# Altium footprint library SPDT_Relay.PcbLib: 2 footprints
Each footprint in its own frame and in the unit in brackets; x right, y up, seen from the top. Pads: shape width x height; smd on the part's side, far side on the other; paste and mask are expansions set on the pad; w line width, h text height; cw(c..) or ccw(c..) is an arc to the next point about the centre after c.
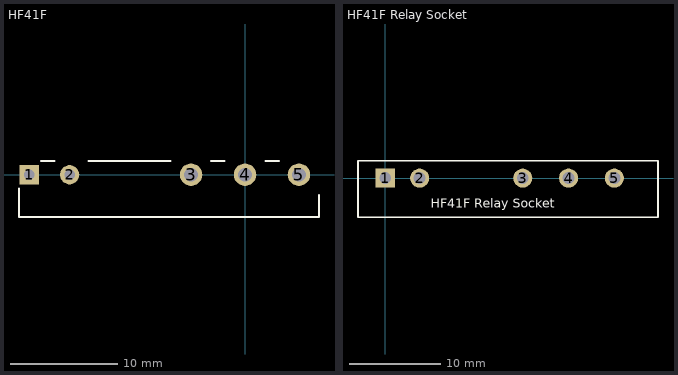
[diagram p0: the footprints below, top view; thin cyan lines are the x and y axes]

## HF41F [mm]
pads (5):
  rect 1.8x1.8 hole 1: 1(-20.16,0)
  round 1.8 hole 1: 2(-16.38,0)
  round 2.1 hole 1.3: 3(-5.04,0) 4(0,0) 5(5.04,0)
Top Overlay:
  lines w0.2: -21.107,-1.295 -21.107,-3.937 6.909,-3.937 6.909,-1.905 ; -19.05,1.27 -17.78,1.27 ; -14.605,1.27 -6.985,1.27 ; -3.175,1.27 -1.905,1.27 ; 1.905,1.27 3.175,1.27
3D body "Relay v2.step": height 15.47, standoff -3.03, extent -21.082,-3.922 6.918,1.178

## HF41F Relay Socket [mm]
pads (5):
  rect 2.1x2.1 hole 1.3: 1(0,0)
  round 2.1 hole 1.3: 2(3.78,0) 3(15.12,0) 4(20.16,0) 5(25.2,0)
Top Overlay:
  lines w0.2: -3,-4.3 -3,1.9 30,1.9 30,-4.3 -3,-4.3
  text "HF41F Relay Socket" at 5.003,-3.267 h1